# EAGLE library part STM32F103RCY7 (library circuit_tree)
IC
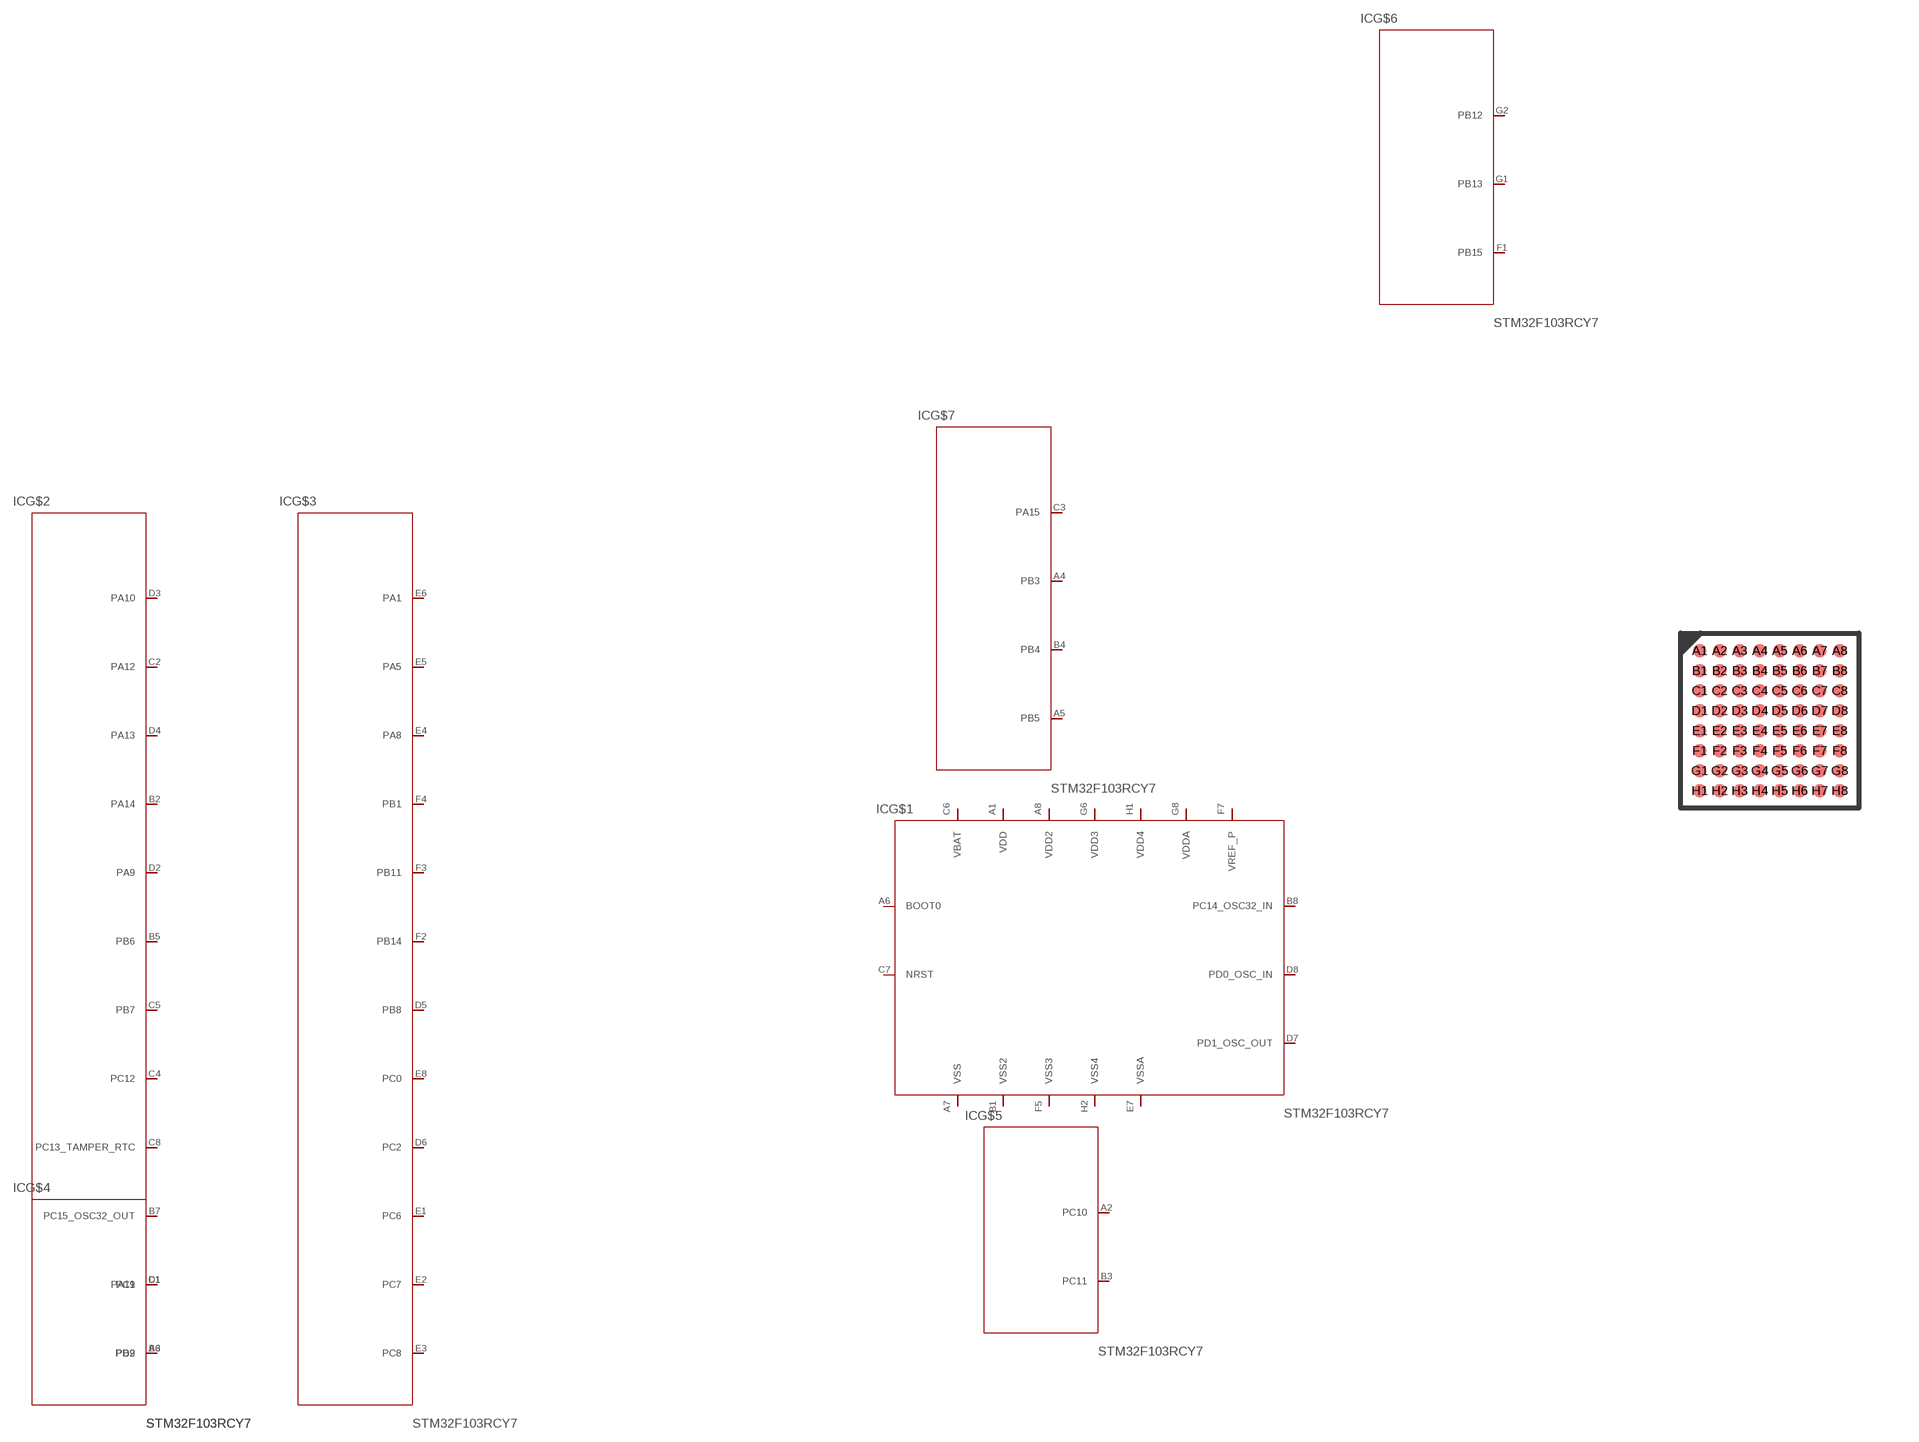
[diagram p7: symbol with the pads of WLCSP64; footprint WLCSP64]

Designator prefix IC; gates G$1=STM32F103RCY7 G$2=STM32F103RCY72 G$3=STM32F103RCY73 G$4=STM32F103RCY74 G$5=STM32F103RCY75 G$6=STM32F103RCY76 G$7=STM32F103RCY77

## STM32F103RCY7  [WLCSP64]
A1  G$1:VDD  pas
A2  G$5:PC10  pas
A3  G$2:PD2  pas
A4  G$7:PB3  pas
A5  G$7:PB5  pas
A6  G$1:BOOT0  pas
A7  G$1:VSS  pas
A8  G$1:VDD2  pas
B1  G$1:VSS2  pas
B2  G$2:PA14  pas
B3  G$5:PC11  pas
B4  G$7:PB4  pas
B5  G$2:PB6  pas
B6  G$4:PB9  pas
B7  G$2:PC15_OSC32_OUT  pas
B8  G$1:PC14_OSC32_IN  pas
C1  G$4:PA11  pas
C2  G$2:PA12  pas
C3  G$7:PA15  pas
C4  G$2:PC12  pas
C5  G$2:PB7  pas
C6  G$1:VBAT  pas
C7  G$1:NRST  pas
C8  G$2:PC13_TAMPER_RTC  pas
D1  G$2:PC9  pas
D2  G$2:PA9  pas
D3  G$2:PA10  pas
D4  G$2:PA13  pas
D5  G$3:PB8  pas
D6  G$3:PC2  pas
D7  G$1:PD1_OSC_OUT  pas
D8  G$1:PD0_OSC_IN  pas
E1  G$3:PC6  pas
E2  G$3:PC7  pas
E3  G$3:PC8  pas
E4  G$3:PA8  pas
E5  G$3:PA5  pas
E6  G$3:PA1  pas
E7  G$1:VSSA  pas
E8  G$3:PC0  pas
F1  G$6:PB15  pas
F2  G$3:PB14  pas
F3  G$3:PB11  pas
F4  G$3:PB1  pas
F5  G$1:VSS3  pas
F7  G$1:VREF_P  pas
G1  G$6:PB13  pas
G2  G$6:PB12  pas
G6  G$1:VDD3  pas
G8  G$1:VDDA  pas
H1  G$1:VDD4  pas
H2  G$1:VSS4  pas

## Footprint WLCSP64 (pad centres in mm)
WLCSP64 4.466 x 4.395 mm, 8 x 8-pin 0.5 mm pitch wafer-level chip-scale package
smd 0.34 x 0.34: A1 -1.75,1.75; A2 -1.25,1.75; A3 -0.75,1.75; A4 -0.25,1.75; A5 0.25,1.75; A6 0.75,1.75; A7 1.25,1.75; A8 1.75,1.75; B1 -1.75,1.25; B2 -1.25,1.25; B3 -0.75,1.25; B4 -0.25,1.25; B5 0.25,1.25; B6 0.75,1.25; B7 1.25,1.25; B8 1.75,1.25; C1 -1.75,0.75; C2 -1.25,0.75; C3 -0.75,0.75; C4 -0.25,0.75; C5 0.25,0.75; C6 0.75,0.75; C7 1.25,0.75; C8 1.75,0.75; D1 -1.75,0.25; D2 -1.25,0.25; D3 -0.75,0.25; D4 -0.25,0.25; D5 0.25,0.25; D6 0.75,0.25; D7 1.25,0.25; D8 1.75,0.25; E1 -1.75,-0.25; E2 -1.25,-0.25; E3 -0.75,-0.25; E4 -0.25,-0.25; E5 0.25,-0.25; E6 0.75,-0.25; E7 1.25,-0.25; E8 1.75,-0.25; F1 -1.75,-0.75; F2 -1.25,-0.75; F3 -0.75,-0.75; F4 -0.25,-0.75; F5 0.25,-0.75; F6 0.75,-0.75; F7 1.25,-0.75; F8 1.75,-0.75; G1 -1.75,-1.25; G2 -1.25,-1.25; G3 -0.75,-1.25; G4 -0.25,-1.25; G5 0.25,-1.25; G6 0.75,-1.25; G7 1.25,-1.25; G8 1.75,-1.25; H1 -1.75,-1.75; H2 -1.25,-1.75; H3 -0.75,-1.75; H4 -0.25,-1.75; H5 0.25,-1.75; H6 0.75,-1.75; H7 1.25,-1.75; H8 1.75,-1.75